# Altium schematic symbol library jlcpcb_amplifier_extended.schlib: 2 symbols
Pins are listed as number, name and electrical type; pins without a type are passive.

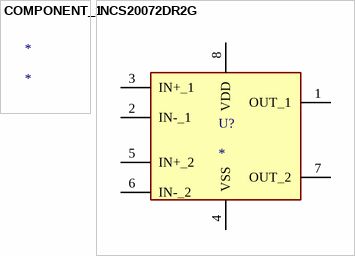
[diagram p0: symbols COMPONENT_1 to NCS20072DR2G]

## COMPONENT_1
designator *

## NCS20072DR2G
designator U?
General Purpose Amplifiers General Purpose 2 2.2V ~ 36V, ±1.35V ~ 18V 3.2MHz 2.4 V/us SOIC-8 RoHS; Manufacturer Part Number: NCS20072DR2G; JLCPCB Part Number: C89845
footprint SOIC8
pins: 1 OUT_1, 2 IN-_1, 3 IN+_1, 4 VSS, 5 IN+_2, 6 IN-_2, 7 OUT_2, 8 VDD